# EAGLE library part Z573M (library western-nixietubes)
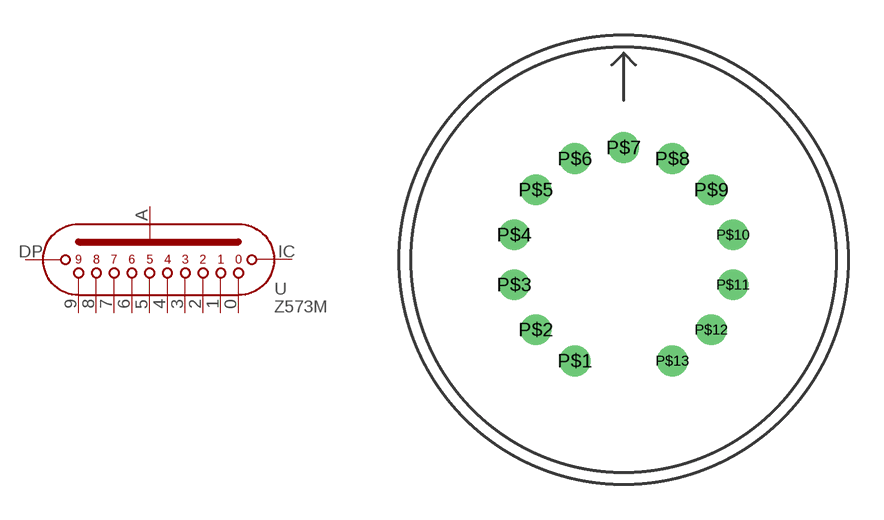
[diagram p0: symbol with the pads of Z57XX; footprint Z57XX]

Designator prefix -

## Z573M  [Z57XX]
P$1  1
P$2  2
P$3  3
P$4  IC
P$5  4
P$6  5
P$7  6
P$8  7
P$9  8
P$10  DP
P$11  9
P$12  0
P$13  A

## Footprint Z57XX (pad centres in mm)
This is the footprint suitable for the following nixie tubes: * Z570M * Z5700M * Z573M * Z5730M * Z574M * Z5740M Tube diameter: 19mm Height from PCB: 47.6mm
drill 0.8: P$1 -2.061,-4.28; P$2 -3.714,-2.962; P$3 -4.631,-1.057; P$4 -4.631,1.057; P$5 -3.714,2.962; P$6 -2.061,4.28; P$7 0,4.75; P$8 2.061,4.28; P$9 3.714,2.962; P$10 4.631,1.057; P$11 4.631,-1.057; P$12 3.714,-2.962; P$13 2.061,-4.28